# EAGLE library part MC34152 (library LARS_409_MC)
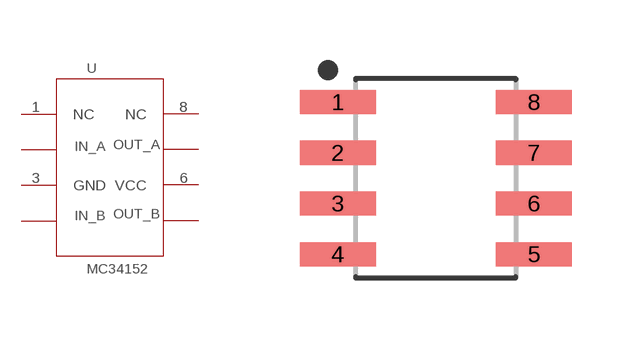
[diagram p24: symbol with the pads of SOIC-8N; footprint SOIC-8N]

Designator prefix U

## MC34152U  [SOIC-8N]
1  NC
2  IN_A
3  GND
4  IN_B
5  OUT_B
6  VCC
7  OUT_A
8  NС

## Footprint SOIC-8N (pad centres in mm)
8-SOIC, 1.27 mm pitch, 6.00 mm span, 4.90 X 3.90 X 1.75 mm body 8-pin SOIC package with 1.27 mm pitch, 6.00 mm span with body size 4.90 X 3.90 X 1.75 mm
smd 1.901 x 0.602: 1 -2.455,1.905; 2 -2.455,0.635; 3 -2.455,-0.635; 4 -2.455,-1.905; 5 2.455,-1.905; 6 2.455,-0.635; 7 2.455,0.635; 8 2.455,1.905